# EAGLE library part 24AA1025 (library zephod-components)
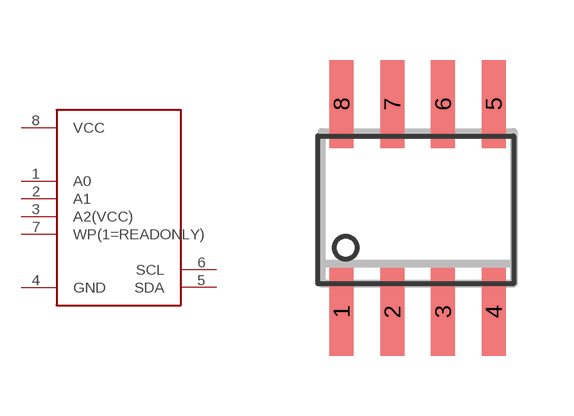
[diagram p3: symbol with the pads of SOIC-8; footprint SOIC-8]

Designator prefix -

## 24AA1025  [SOIC-8]
1  A0
2  A1
3  A2(VCC)
4  GND
5  SDA
6  SCL
7  WP(1=READONLY)
8  VCC

## Footprint SOIC-8 (pad centres in mm)
smd 0.6 x 2.2: 1 -1.905,-2.6; 2 -0.635,-2.6; 3 0.635,-2.6; 4 1.905,-2.6; 5 1.905,2.6; 6 0.635,2.6; 7 -0.635,2.6; 8 -1.905,2.6